# EAGLE library part 49225-0821 (library robotter_connector)
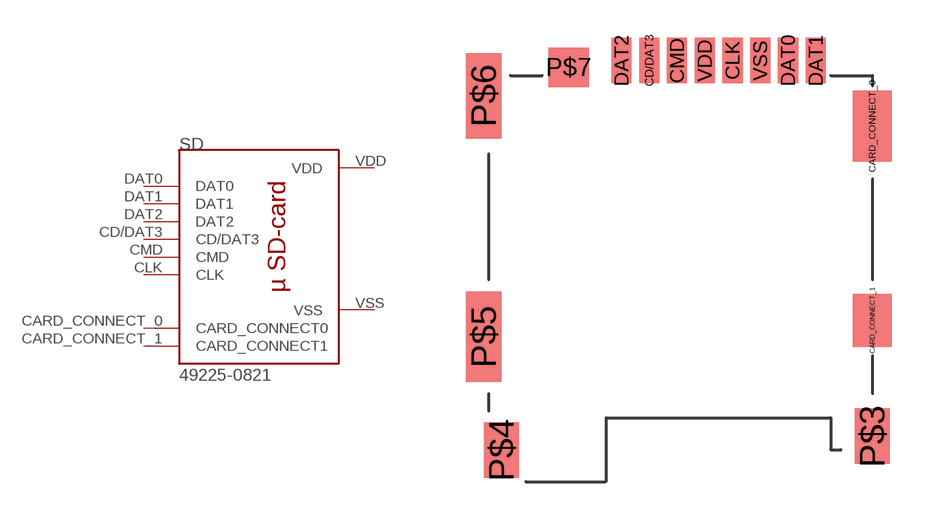
[diagram p9: symbol with the pads of 49225-0821; footprint 49225-0821]

Designator prefix SD

## 49225-0821  [49225-0821]
CARD_CONNECT_0  CARD_CONNECT0
CARD_CONNECT_1  CARD_CONNECT1
CD/DAT3  CD/DAT3
CLK  CLK
CMD  CMD
DAT0  DAT0
DAT1  DAT1
DAT2  DAT2
VDD  VDD
VSS  VSS

## Footprint 49225-0821 (pad centres in mm)
smd 1.55 x 2.8: CARD_CONNECT_0 6.73,14.1
smd 1.55 x 2.1: CARD_CONNECT_1 6.73,6.4
smd 0.8 x 1.8: CD/DAT3 -2.11,16.7; CLK 1.19,16.7; CMD -1.01,16.7; DAT0 3.39,16.7; DAT1 4.49,16.7; DAT2 -3.21,16.7; VDD 0.09,16.7; VSS 2.29,16.7
smd 1.4 x 2.2: P$3 6.73,1.8; P$4 -7.97,1.25
smd 1.4 x 3.6: P$5 -8.67,5.75
smd 1.4 x 3.4: P$6 -8.67,15.3
smd 1.6 x 1.55: P$7 -5.31,16.425